# Altium schematic symbol library LSM6DSMTR.SchLib: 1 symbol
Pins are listed as number, name and electrical type; pins without a type are passive.

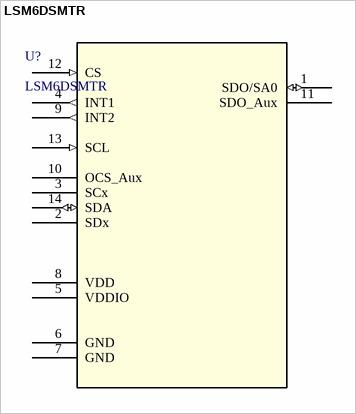
[diagram p0: symbol LSM6DSMTR]

## LSM6DSMTR
designator U?
iNEMO 6DoF inertial measurement unit (IMU), for smart phones with OIS / EIS and AR/VR systems. Ultra-low power, high accuracy and stability; Manufacturer_Name: STMicroelectronics; Copyright: Copyright (C) 2026 Ultra Librarian. All rights reserved.; Manufacturer_Part_Number: LSM6DSMTR; RefDes: RefDes; Type: Type
footprint LGA-14L_2P5X3X0P83_STM
pins: 1 SDO/SA0 (io), 2 SDx, 3 SCx, 4 INT1 (out), 5 VDDIO (power), 6 GND (power), 7 GND (power), 8 VDD (power), 9 INT2 (out), 10 OCS_Aux, 11 SDO_Aux, 12 CS (in), 13 SCL (in), 14 SDA (io)